# Altium footprint library 395021002.PcbLib: 1 footprints
Each footprint in its own frame and in the unit in brackets; x right, y up, seen from the top. Pads: shape width x height; smd on the part's side, far side on the other; paste and mask are expansions set on the pad; w line width, h text height; cw(c..) or ccw(c..) is an arc to the next point about the centre after c.
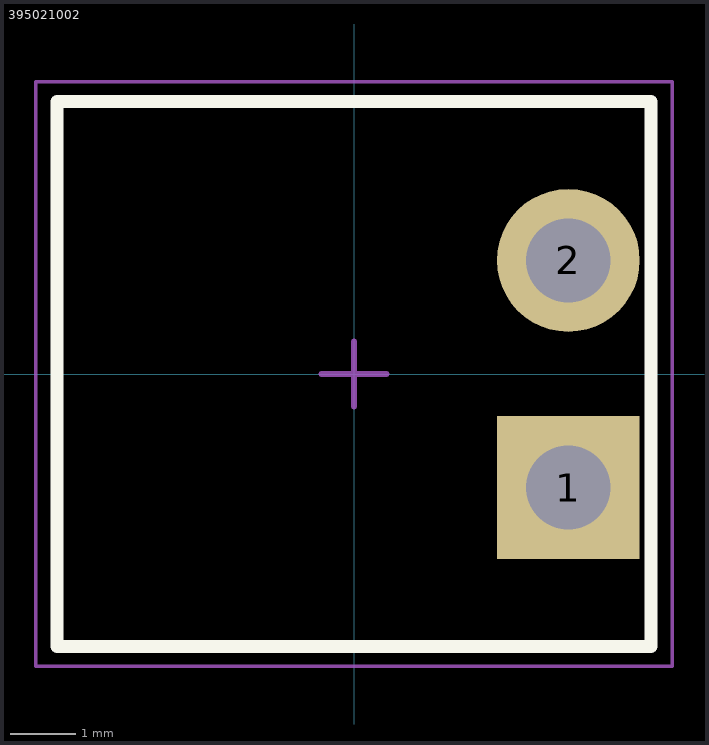
[diagram p0: the footprint, top view; thin cyan lines are the x and y axes]

## 395021002 [mm] "2 Position Terminal Block Header, Male Pins, 3.5mm Pitch, 4.2x9.2mm Body, 90°, Right Angle, THT"
height 7.3
pads (2):
  rect 2.2x2.2 hole 1.295: 1(3.3,-1.75)
  round 2.2 hole 1.295: 2(3.3,1.75)
Top Overlay:
  lines w0.2: -4.572,-4.2 4.572,-4.2 4.572,4.2 -4.572,4.2 -4.572,-4.2
Top Comment:
  text ".Comment" at 0.9,4.7 h1.2
Top Designator:
  text ".Designator" at -0.6,4.6 h1.2
Top Component Outline:
  lines w0.1: -4.572,-4.204 -4.572,4.2 4.572,4.2 4.572,-4.204 ; -4.572,-4.2 4.572,-4.2
Top Courtyard:
  lines w0.05: -4.9,-4.5 4.9,-4.5 4.9,4.5 -4.9,4.5 -4.9,-4.5
  lines w0.1: -0.5,0 0,0 ; 0,-0.5 0,0 ; 0,0.5 0,0 ; 0.5,0 0,0
3D body "Molex - 395021002.step": height 7.11, standoff -3.56, extent -4.572,-4.216 4.572,4.216